# Altium footprint library DIN连接器.PcbLib: 2 footprints
Each footprint in its own frame and in the unit in brackets; x right, y up, seen from the top. Pads: shape width x height; smd on the part's side, far side on the other; paste and mask are expansions set on the pad; w line width, h text height; cw(c..) or ccw(c..) is an arc to the next point about the centre after c.
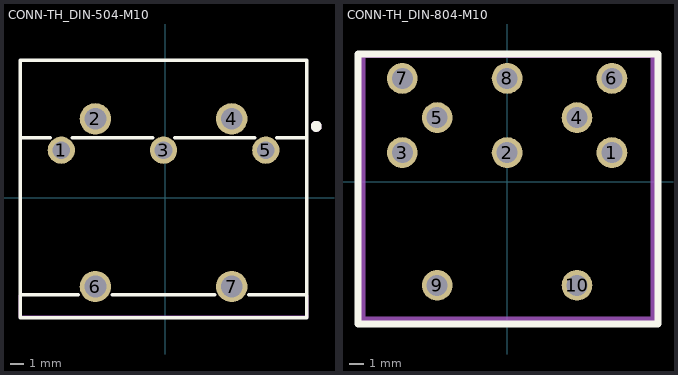
[diagram p0: the footprints below, top view; thin cyan lines are the x and y axes]

## CONN-TH_DIN-504-M10 [mm]
pads (7):
  round 2 hole 1.3 paste+0 mask+0.05: 1(-7.627,3.469) 3(-0.127,3.469) 5(7.373,3.469)
  round 2.3 hole 1.6 paste+0 mask+0.05: 2(-5.127,5.769) 4(4.873,5.769) 6(-5.127,-6.531) 7(4.873,-6.531)
Top Overlay:
  circle w0.4: c11.073,5.219 r0.2
  lines w0.254: -10.627,-7.131 -6.371,-7.131 ; -10.627,4.397 -8.435,4.397 ; -6.819,4.397 -0.935,4.397 ; -3.883,-7.131 3.629,-7.131 ; 0.681,4.397 6.565,4.397 ; 6.117,-7.131 10.373,-7.131 ; 8.181,4.397 10.365,4.397 ; -10.627,-8.831 10.373,-8.831 10.373,10.069 9.373,10.069 -10.627,10.069 -10.627,-8.831
Mechanical 6:
  circle w0.4: c11.073,5.219 r0.2
  region: 10.373,-7.081 10.473,-7.181 10.473,-8.781 10.373,-8.881 -10.627,-8.881 -10.727,-8.781 -10.727,-7.181 -10.627,-7.081 -10.527,-7.081 -10.527,-8.681 10.273,-8.681 10.273,-7.081
Mechanical 15:
  region: 4.373,5.269 4.373,6.269 5.373,6.269 5.373,5.269
  region: -5.627,5.269 -5.627,6.269 -4.627,6.269 -4.627,5.269
  region: -7.327,3.969 -7.327,2.969 -7.927,2.969 -7.927,3.969
  region: 0.173,3.969 0.173,2.969 -0.427,2.969 -0.427,3.969
  region: 7.673,3.969 7.673,2.969 7.073,2.969 7.073,3.969
  region: -4.627,-6.406 -4.627,-6.656 -5.627,-6.656 -5.627,-6.406
  region: 5.373,-6.406 5.373,-6.656 4.373,-6.656 4.373,-6.406
  region: 10.313,10.069 10.313,10.045 10.348,10.01 10.397,10.01 10.432,10.045 10.433,10.069 10.432,10.094 10.397,10.128 10.348,10.128 10.313,10.094 10.313,10.069
  lines w0.051: -10.627,-8.831 10.373,-8.831 10.373,10.069 -10.627,10.069 -10.627,-8.831
3D body "CN2.step": height 19.6, standoff -4, extent -10.627,-8.841 10.373,10.059

## CONN-TH_DIN-804-M10 [mm]
pads (10):
  round 2.2 hole 1.5 paste+0 mask+0.051: 1(7.5,2.1) 2(0,2.1) 3(-7.5,2.1) 4(5,4.6) 5(-5,4.6) 6(7.5,7.4) 7(-7.5,7.4) 8(0,7.4) 9(-5,-7.4) 10(5,-7.4)
Top Overlay:
  lines w0.5: -10.668,-10.16 -10.668,9.144 10.795,9.144 10.795,-10.16 -10.668,-10.16
Mechanical 6:
  region: -10.164,8.89 -10.164,-9.656 10.291,-9.656 10.291,8.89 10.291,8.94 10.329,9.032 10.399,9.102 10.491,9.14 10.591,9.14 10.683,9.102 10.753,9.032 10.791,8.94 10.791,8.89 10.791,-9.906 10.791,-9.956 10.753,-10.048 10.683,-10.118 10.591,-10.156 10.541,-10.156 -10.414,-10.156 -10.464,-10.156 -10.556,-10.118 -10.626,-10.048 -10.664,-9.956 -10.664,-9.906 -10.664,8.89 -10.664,8.94 -10.626,9.032 -10.556,9.102 -10.464,9.14 -10.364,9.14 -10.272,9.102 -10.202,9.032 -10.164,8.94 -10.164,8.89
Mechanical 15:
  drawing of 15 lines, arcs and shapes, not listed
3D body "U2.step": height 19.4, standoff -4, extent -10.5,-9.908 10.5,8.892